# Altium schematic symbol library Conn,Pwr Ent,Rcpt,IEC320,Male,PCB Mnt,Right.Schlib: 1 symbol
Pins are listed as number, name and electrical type; pins without a type are passive.

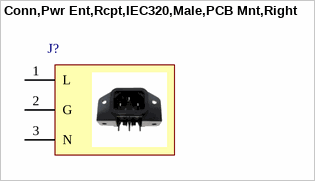
[diagram p0: symbol Conn,Pwr Ent,Rcpt,IEC320,Male,PCB Mnt,Right]

## Conn,Pwr Ent,Rcpt,IEC320,Male,PCB Mnt,Right
designator J?
pins: 1 L, 2 G, 3 N